# Altium schematic symbol library AD7656.SchLib: 1 symbol
Pins are listed as number, name and electrical type; pins without a type are passive.

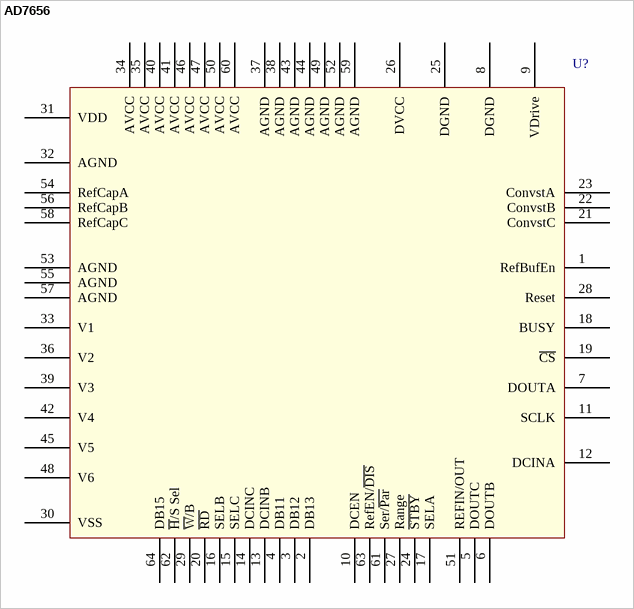
[diagram p0: symbol AD7656]

## AD7656
designator U?
pins: 1 RefBufEn, 2 DB13, 3 DB12, 4 DB11, 5 DOUTC, 6 DOUTB, 7 DOUTA, 8 DGND, 9 VDrive, 10 DCEN, 11 SCLK, 12 DCINA, 13 DCINB, 14 DCINC, 15 SELC, 16 SELB, 17 SELA, 18 BUSY, 19 ~{CS}, 20 ~{RD}, 21 ConvstC, 22 ConvstB, 23 ConvstA, 24 ~{STBY}, 25 DGND, 26 DVCC, 27 Range, 28 Reset, 29 ~{W}/B, 30 VSS, 31 VDD, 32 AGND, 33 V1, 34 AVCC, 35 AVCC, 36 V2, 37 AGND, 38 AGND, 39 V3, 40 AVCC, 41 AVCC, 42 V4, 43 AGND, 44 AGND, 45 V5, 46 AVCC, 47 AVCC, 48 V6, 49 AGND, 50 AVCC, 51 REFIN/OUT, 52 AGND, 53 AGND, 54 RefCapA, 55 AGND, 56 RefCapB, 57 AGND, 58 RefCapC, 59 AGND, 60 AVCC, 61 Ser/~{Par}, 62 ~{H}/S Sel, 63 RefEN/~{DIS}, 64 DB15
1 alternate drawing of the same symbol